# Altium schematic symbol library PRO_LA150C_RDIVER_V1.00.SCHLIB: 31 symbols
Pins are listed as number, name and electrical type; pins without a type are passive.

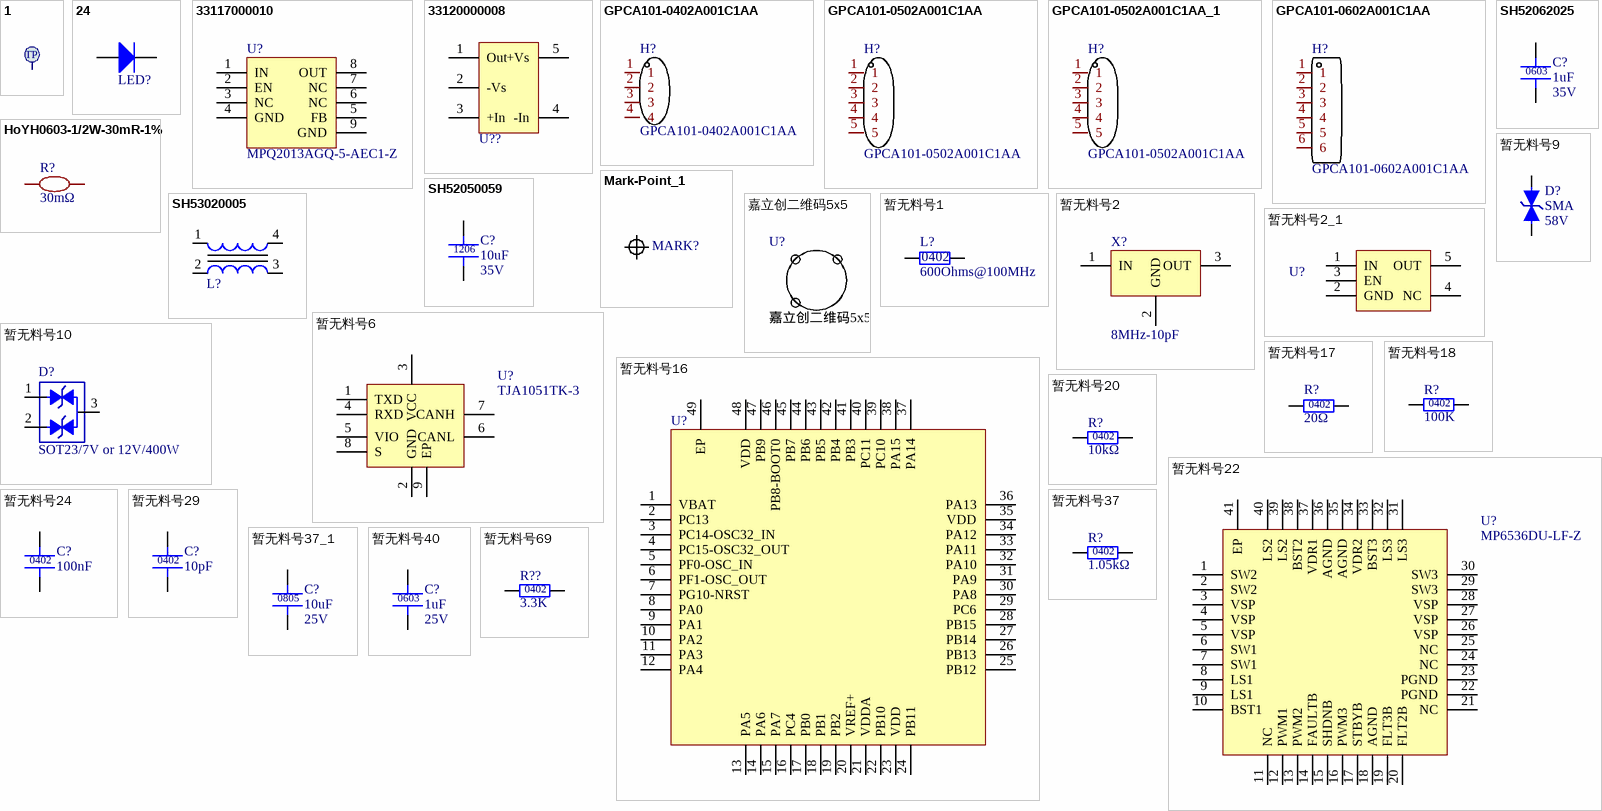
[diagram p0: symbols 1 to 暂无料号69]

## 1
designator TP?, comment TP0.8  (value not drawn)  (no BOM)
0.8mmTP测试点; PartNumber: 1; ①Lib Version: Shlib_V1.00; ①Lib Designer: 王涛; ①Lib Date: 2023.05.30; HelpURL: /
footprint TP0.8
pins: 0
text: TP

## 24
designator LED?, comment XL-1005UGC  (value not drawn)
LED; PartNumber: 24; ①Lib Version: Shlib_V1.00; ①Lib Designer: 叶建伟; Manufacture PN: XL-1005UGC; 供应商: XINGLIGHT; ①Lib Date: 2024.07.15; HelpURL: C:\事业二部电控开发部硬件技术部\Sanhua Library\Other\Datasheet\XL-1005UGC_规格书.pdf
footprint LED_0402_XL
pins: A, K

## 33117000010
designator U?, comment Manufacture PN: MPQ2013AGQ-5-AEC1-Z  (hidden comment: 5V/150mA/QFN-8)
LDO; PartNumber: 33117000010; ①器件等级: AEC-Q100; 有效期: 2 years; ①制造商: MPS; ②工作温度: -40~125℃; ②工作电压V: 2.5V ~ 40V; ①Lib Version: Shlib_V1.00; ①Lib Designer: 逯佩洁; ①Lib Date: 2023.08.25; HelpURL: C:\事业二部电控开发部硬件技术部\Sanhua Library\IC_POWER\DATASHEET\33117000010-MPQ2013AGQ-5-AEC1.pdf
footprint QFN8_MPS
pins: 1 IN, 2 EN, 3 NC, 4 GND, 5 FB, 6 NC, 7 NC, 8 OUT, 9 GND

## 33120000008
designator U??, comment 2.1V~6.0V/1 MHz/80μA/SOT23-5  (value not drawn)
运算放大器; PartNumber: 33120000008; Manufacture PN: TP6001-TR; ①器件等级: 非车规; 有效期: 2 years; ①制造商: 3PEAK; ②工作温度: -40 °C~125 °C; ②工作电流I: Imax=10mA; ①Lib Version: Shlib_V1.00; ①Lib Designer: 王涛; ②工作电压V: 2.1V~6.0V; ①Lib Date: 2023.02.21; HelpURL: C:\事业二部电控开发部硬件技术部\Sanhua Library\Amplifier\Datasheet\3Peak-TP6001.pdf
footprint SOT23-5_3PEAK
pins: 1 Out, 2 -Vs, 3 +In, 4 -In, 5 +Vs

## GPCA101-0402A001C1AA
designator H?
Manufacturer: GREENCONN(格康); Symbol: GPCA101-0502A001C1AA; Add into BOM: yes; Pin Structure: 1x5P; Pitch: 1mm; Current Rating (Max): 1A; Device: GPCA101-0502A001C1AA; Supplier: LCSC; Supplier Part: C5138889; Manufacturer Part: GPCA101-0402A001C1AA; LCSC Part Name: GPCA101-0502A001C1AA; Supplier Footprint: 插件,P=1mm; JLCPCB Part Class: Extended Part; Datasheet: https://atta.szlcsc.com/upload/public/pdf/source/20221101/815E8DB63101104F5702A6393B10E0FC.pdf; Convert to PCB: yes; Mounting Type: 直插; Number of Rows: 单排; Number of Pins: 5P; Operating Temperature Range: -40℃~+105℃; Name: GPCA101-0402A001C1AA
footprint 4pin
pins: 1, 2, 3, 4

## GPCA101-0502A001C1AA
designator H?
Manufacturer: GREENCONN(格康); Add into BOM: yes; Pin Structure: 1x5P; Pitch: 1mm; Current Rating (Max): 1A; Name: GPCA101-0502A001C1AA; Symbol: GPCA101-0502A001C1AA; Device: GPCA101-0502A001C1AA; Supplier: LCSC; Supplier Part: C5138889; Manufacturer Part: GPCA101-0502A001C1AA; LCSC Part Name: GPCA101-0502A001C1AA; Supplier Footprint: 插件,P=1mm; JLCPCB Part Class: Extended Part; Datasheet: https://atta.szlcsc.com/upload/public/pdf/source/20221101/815E8DB63101104F5702A6393B10E0FC.pdf; Convert to PCB: yes; Mounting Type: 直插; Number of Rows: 单排; Number of Pins: 5P; Operating Temperature Range: -40℃~+105℃
footprint 5pin
pins: 1, 2, 3, 4, 5

## GPCA101-0502A001C1AA_1
designator H?, comment GPCA101-0502A001C1AA
Manufacturer: GREENCONN(格康); Add into BOM: yes; Pin Structure: 1x5P; Pitch: 1mm; Current Rating (Max): 1A; Symbol: GPCA101-0502A001C1AA; Device: GPCA101-0502A001C1AA; Supplier: LCSC; Supplier Part: C5138889; Manufacturer Part: GPCA101-0502A001C1AA; LCSC Part Name: GPCA101-0502A001C1AA; Supplier Footprint: 插件,P=1mm; JLCPCB Part Class: Extended Part; Datasheet: https://atta.szlcsc.com/upload/public/pdf/source/20221101/815E8DB63101104F5702A6393B10E0FC.pdf; Convert to PCB: yes; Mounting Type: 直插; Number of Rows: 单排; Number of Pins: 5P; Operating Temperature Range: -40℃~+105℃; Name: GPCA101-0502A001C1AA
footprint 5pin
pins: 1, 2, 3, 4, 5

## GPCA101-0602A001C1AA
designator H?
Manufacturer: GREENCONN(格康); Symbol: GPCA101-0502A001C1AA; Add into BOM: yes; Pin Structure: 1x5P; Pitch: 1mm; Current Rating (Max): 1A; Device: GPCA101-0502A001C1AA; Supplier: LCSC; Supplier Part: C5138889; Manufacturer Part: GPCA101-0602A001C1AA; LCSC Part Name: GPCA101-0502A001C1AA; Supplier Footprint: 插件,P=1mm; JLCPCB Part Class: Extended Part; Datasheet: https://atta.szlcsc.com/upload/public/pdf/source/20221101/815E8DB63101104F5702A6393B10E0FC.pdf; Convert to PCB: yes; Mounting Type: 直插; Number of Rows: 单排; Number of Pins: 5P; Operating Temperature Range: -40℃~+105℃; Name: GPCA101-0602A001C1AA
footprint 6pin
pins: 1, 2, 3, 4, 5, 6

## HoYH0603-1/2W-30mR-1%
designator R?, comment 30mΩ
电阻类型:采样电阻;阻值:30mΩ;精度:±1%;功率:500mW;安装方式:贴片;; Manufacturer: Milliohm(毫欧); Symbol: HOYH0603-1/2W-30MR-1%; Add into BOM: yes; Tolerance: ±1%; Power(Watts): 500mW; Mounting Sytle: 贴片; Device: HoYH0603-1/2W-30mR-1%; LCSC Part Name: 30mΩ ±1% 500mW; Supplier Part: C2932781; Manufacturer Part: HoYH0603-1/2W-30mR-1%; Supplier Footprint: 0603; JLCPCB Part Class: 扩展库; Datasheet: https://atta.szlcsc.com/upload/public/pdf/source/20211116/A510C0D8A660B2C11D153FDB54B68FB7.pdf; Supplier: LCSC; Convert to PCB: yes; Type: 采样电阻; Value: 30mΩ
footprint R0603_AC_YAGEO (Chip Resistor, 2-Leads, Body 1.60x0.80mm, IPC Medium Density)
pins: 1, 2

## Mark-Point_1
designator MARK?  (value not drawn)
Add into BOM: no; Convert to PCB: yes; Symbol: Mark-Point; Device: Mark-Point_1
footprint Mark-Point-1mm
pins: 1

## SH52050059
designator C?, comment ②容值: 10uF  ②工作电压V: 35V  (hidden comment: 1206-10uF-35V-10%)
贴片电容; PartNumber: SH52050059; Manufacture PN: CGA5L1X7R1V106K160AE; ①器件等级: AEC-Q200; 有效期: 6 months; 存储条件: RH:20~70% +5~40℃; ①制造商: TDK; ②工作温度: -55℃~+125℃; ②容差: ±10%; ①Lib Version: Shlib_V1.00; ①Lib Designer: 王涛; ①Lib Date: 2022.09.27; HelpURL: C:\事业二部电控开发部硬件技术部\Sanhua Library\Capacitor\Datasheet\CGA系列-TDK.pdf
footprint C1206_CGA_TDK
pins: 1, 2
text: 1206

## SH52062025
designator C?, comment ②容值: 1uF  ②工作电压V: 35V  (hidden comment: 0603-1uF-35V-10%)
贴片电容; PartNumber: SH52062025; Manufacture PN: CGA3E1X7R1V105KT000N; ①器件等级: AEC-Q200; 有效期: 6 months; 存储条件: RH:20~70% +5~40℃; ①制造商: TDK; ②工作温度: -55℃~+125℃; ②容差: ±10%; ①Lib Version: Shlib_V1.00; ①Lib Designer: 王涛; ①Lib Date: 2022.09.27; HelpURL: C:\事业二部电控开发部硬件技术部\Sanhua Library\Capacitor\Datasheet\CGA系列-TDK.pdf
footprint C0603_CGA_TDK
pins: 1, 2
text: 0603

## SH53020005
designator L?, comment 4.5*3.2/50uH+50/1Ω/0.2A/-30%  (value not drawn)
贴片电感; PartNumber: SH53020005; Manufacture PN: ACT45B-510-2P-TL003; ①器件等级: AEC-Q200; ①制造商: TDK; ①Lib Version: Shlib_V1.00; ①Lib Designer: 逯佩洁; ①Lib Date: 2023.11.14; HelpURL: C:\事业二部电控开发部硬件技术部\Sanhua Library\Inductance\Datasheet\cmf_automotive_signal_act45b_en.pdf
footprint L4.5*3.2*2.8_TDK (DFN, 4-Leads, Body 3.20x4.50mm, Pitch 3.80mm, IPC Medium Density)
pins: 1, 2, 3, 4

## 嘉立创二维码5x5
designator U?, comment TOP层二维码5x5  (value not drawn)
Symbol: 嘉立创二维码5x5; Add into BOM: yes; Device: 嘉立创二维码5x5; Convert to PCB: yes
footprint JLC-QRCODE-5x5

## 暂无料号1
designator L?, comment value 600Ohms@100MHz  (hidden comment: 0402-600 Ohms@100MHz)
贴片磁珠; PartNumber: 暂无料号1; Manufacture PN: BLM15AG601SN1D; ①器件等级: AEC-Q200; 有效期: 6个月; ①制造商: MURATA; ①Lib Version: Shlib_V1.00; ①Lib Designer: 叶建伟; ①Lib Date: 2024.07.11; HelpURL: C:\事业二部电控开发部硬件技术部\Sanhua Library\Magnetic_Bead\Datasheet\BLM15AG601SN1D.pdf
footprint B0402_MURATA (Chip Inductor, 2-Leads, Body 1.00x0.50mm, IPC Medium Density)
pins: 1, 2
text: 0402

## 暂无料号2
designator X?, comment 8MHz-10pF
贴片晶振; PartNumber: 暂无料号2; Manufacture PN: CSTCE8M00G52-R0; ①制造商: MURATA; ②工作温度: -20~80°C; ②容值: 10pf; ①Lib Version: Shlib_V1.00; ①Lib Designer: 叶建伟; ①Lib Date: 2024.07.11; HelpURL: C:\事业二部电控开发部硬件技术部\Sanhua Library\Crystal_Oscillator\Datasheet\CSTCE8M00G52-R0.pdf
footprint Y_8M_MURATA
pins: 1 IN, 2 GND, 3 OUT

## 暂无料号2_1
designator U?, comment SOT-23-5/3.3V/300mA/1.4V-5.5V  (value not drawn)
LDO; PartNumber: 暂无料号2; Manufacture PN: TLV74333PDBVR; ①制造商: Texas Instruments; ②工作温度: -40℃~125℃; ②工作电流I: 300mA; ①Lib Version: Shlib_V1.00; ①Lib Designer: 叶建伟; ②工作电压V: 1.4V-5.5V; ①Lib Date: 2024.07.15; HelpURL: C:\事业二部电控开发部硬件技术部\Sanhua Library\IC_POWER\DATASHEET\TLV743P.pdf
footprint SOT-23-5_TI (SOT23, 5-Leads, Body 2.90x2.80mm, Pitch 0.95mm, IPC Medium Density)
pins: 1 IN, 2 GND, 3 EN, 4 NC, 5 OUT

## 暂无料号6
designator U?, comment Manufacture PN: TJA1051TK-3  (hidden comment: SO8/5.0V/70mA)
CAN收发器; PartNumber: 暂无料号6; ①制造商: NXP; ①Lib Version: Shlib_V1.00; ①Lib Designer: 逯佩洁; ①Lib Date: 2024.02.23; HelpURL: C:\事业二部电控开发部硬件技术部\Sanhua Library\IC_Bus\Datasheet\TJA1051TK-3,118.pdf
footprint U_HVSON8_NXP
pins: 1 TXD, 2 GND, 3 VCC, 4 RXD, 5 VIO, 6 CANL, 7 CANH, 8 S, 9 EP

## 暂无料号9
designator D?, comment 封装: SMA  ②工作电压V: 58V  (hidden comment: SMA/58V/400W)
贴片TVS管; PartNumber: 暂无料号9; Manufacture PN: P4SMAJ58CA_R1_00001; ①制造商: PANJIT; ②工作温度: -55~+150℃; ②功率P: 400W; ①Lib Version: Shlib_V1.00; ①Lib Designer: 叶建伟; ①Lib Date: 2024.07.24; HelpURL: C:\事业二部电控开发部硬件技术部\Sanhua Library\TVS_ESD\Datasheet\P4SMAJ_规格书.pdf
footprint SMA_PANJIT (Molded Diode, 2-Leads, Body 4.30x2.70mm, IPC Medium Density)
pins: 1 A, 2 K

## 暂无料号10
designator D?, comment SOT23/7V or 12V/400W
贴片TVS管; PartNumber: 暂无料号10; Manufacture PN: CDSOT23-SM712; ①制造商: TECH PUBLIC; ①Lib Version: Shlib_V1.00; ①Lib Designer: 叶建伟; ①Lib Date: 2024.07.24; HelpURL: C:\事业二部电控开发部硬件技术部\Sanhua Library\TVS_ESD\Datasheet\CDSOT23-SM712.pdf
footprint SOT23_TP (SOT23, 3-Leads, Body 2.92x2.37mm, Pitch 0.95mm, IPC Medium Density)
pins: 1, 2, 3

## 暂无料号16
designator U?  (value not drawn)
MCU; Manufacture PN: STM32G473CEU3; ①制造商: ST; ②工作温度: -40~125℃; ②工作电压V: 1.71~3.6V; ①Lib Version: Shlib_V1.00; ①Lib Designer: 叶建伟; PartNumber: 暂无料号16; ①Lib Date: 2024.07.23; HelpURL: C:\事业二部电控开发部硬件技术部\Sanhua Library\IC_MCU\Datasheet\STM32G473规格书.pdf
footprint UFQFPN48_ST (QFN, 48-Leads, Body 7.00x7.00mm, Pitch 0.50mm, Thermal Pad 5.60x5.60mm, IPC Medium Density)
pins: 1 VBAT, 2 PC13, 3 PC14-OSC32_IN, 4 PC15-OSC32_OUT, 5 PF0-OSC_IN, 6 PF1-OSC_OUT, 7 PG10-NRST, 8 PA0, 9 PA1, 10 PA2, 11 PA3, 12 PA4, 13 PA5, 14 PA6, 15 PA7, 16 PC4, 17 PB0, 18 PB1, 19 PB2, 20 VREF+, 21 VDDA, 22 PB10, 23 VDD, 24 PB11, 25 PB12, 26 PB13, 27 PB14, 28 PB15, 29 PC6, 30 PA8, 31 PA9, 32 PA10, 33 PA11, 34 PA12, 35 VDD, 36 PA13, 37 PA14, 38 PA15, 39 PC10, 40 PC11, 41 PB3, 42 PB4, 43 PB5, 44 PB6, 45 PB7, 46 PB8-BOOT0, 47 PB9, 48 VDD, 49 EP

## 暂无料号17
designator R?, comment ②阻值: 20Ω  (hidden comment: 0402-20R-1%)
贴片电阻; PartNumber: 暂无料号17; Manufacture PN: RC0402FR-0720RL; ①制造商: YAGEO; ①Lib Version: Shlib_V1.00; ①Lib Designer: 逯佩洁; ①Lib Date: 2024.02.02; HelpURL: C:\事业二部电控开发部硬件技术部\Sanhua Library\Resistor\Datasheet\RC_ResGroup_YAGEO
footprint R0402_RC_YAGEO (Chip Resistor, 2-Leads, Body 1.00x0.50mm, IPC Medium Density)
pins: 1, 2
text: 0402

## 暂无料号18
designator R?, comment ②阻值: 100K  (hidden comment: 0402-100K-1%)
贴片电阻; PartNumber: 暂无料号18; Manufacture PN: RC0402FR-07100KL; ①器件等级: 非汽车级; ①制造商: YAGEO; ②工作温度: -55℃~155℃; ②阻差: ±1%; ①Lib Version: Shlib_V1.00; ①Lib Designer: 逯佩洁; ①Lib Date: 2024.02.04; HelpURL: C:\事业二部电控开发部硬件技术部\Sanhua Library\Resistor\Datasheet\RC_ResGroup_YAGEO.pdf
footprint R0402_RC_YAGEO
pins: 1, 2
text: 0402

## 暂无料号20
designator R?, comment ②阻值: 10kΩ  (hidden comment: 0402-10KR-1%)
贴片电阻; PartNumber: 暂无料号20; Manufacture PN: RC0402FR-0710KL; ①制造商: YAGEO; ①Lib Version: Shlib_V1.00; ①Lib Designer: 逯佩洁; ①Lib Date: 2024.03.04; HelpURL: C:\事业二部电控开发部硬件技术部\Sanhua Library\Resistor\Datasheet\
footprint R0402_RC_YAGEO (Chip Resistor, 2-Leads, Body 1.00x0.50mm, IPC Medium Density)
pins: 1, 2
text: 0402

## 暂无料号22
designator U?, comment Manufacture PN: MP6536DU-LF-Z  (hidden comment: QFN40/5~26V/5.5A)
电机驱动芯片; PartNumber: 暂无料号22; ①制造商: MPS; ②工作温度: -40~125℃; ②工作电压V: 5~26V; ②工作电流I: 5.5A; ①Lib Version: Shlib_V1.00; ①Lib Designer: 叶建伟; ①Lib Date: 2024.11.11; HelpURL: C:\事业二部电控开发部硬件技术部\Sanhua Library\IC_Driver\Datasheet\MP6536.pdf
footprint QFN40_5*5_MPS
pins: 1 SW2, 2 SW2, 3 VSP, 4 VSP, 5 VSP, 6 SW1, 7 SW1, 8 LS1, 9 LS1, 10 BST1, 11 NC, 12 PWM1, 13 PWM2, 14 FAULTB, 15 SHDNB, 16 PWM3, 17 STBYB, 18 AGND, 19 FLT3B, 20 FLT2B, 21 NC, 22 PGND, 23 PGND, 24 NC, 25 NC, 26 VSP, 27 VSP, 28 VSP, 29 SW3, 30 SW3, 31 LS3, 32 LS3, 33 BST3, 34 VDR2, 35 AGND, 36 AGND, 37 VDR1, 38 BST2, 39 LS2, 40 LS2, 41 EP

## 暂无料号24
designator C?, comment ②容值: 100nF  (hidden comment: C0402-100nF)
贴片电容; PartNumber: 暂无料号24; Manufacture PN: GRM155R71H104KE14D; ①器件等级: AEC-Q200; ①制造商: MURATA; ①Lib Version: Shlib_V1.00; ①Lib Designer: 逯佩洁; ①Lib Date: 2024.04.15; HelpURL: C:\事业二部电控开发部硬件技术部\Sanhua Library\Capacitor\Datasheet\GRM系列电容-muRata
footprint C0402_GRM_MURATA (Chip Capacitor, 2-Leads, Body 1.00x0.50mm, IPC Medium Density)
pins: 1, 2
text: 0402

## 暂无料号29
designator C?, comment ②容值: 10pF  (hidden comment: C0402-10pF-50V-5%)
贴片电容; PartNumber: 暂无料号29; Manufacture PN: CC0402JRNPO9BN100; ①器件等级: AEC-Q200; ①制造商: YAGEO; ①Lib Version: Shlib_V1.00; ①Lib Designer: 逯佩洁; ①Lib Date: 2024.04.15; HelpURL: C:\事业二部电控开发部硬件技术部\Sanhua Library\Capacitor\Datasheet\CC系列NPO电容(0-50V)-YAGEO
footprint C0402_CC_YAGEO (Chip Capacitor, 2-Leads, Body 1.00x0.50mm, IPC Medium Density)
pins: 1, 2
text: 0402

## 暂无料号37
designator R?, comment ②阻值: 1.05kΩ  (hidden comment: 0402-1.05KΩ-1%)
贴片电阻; PartNumber: 暂无料号37; Manufacture PN: RC0402FR-071K05L; ①制造商: YAGEO; ②阻差: ±1%; ①Lib Version: Shlib_V1.00; ①Lib Designer: 叶建伟; ①Lib Date: 2024.07.24; HelpURL: C:\事业二部电控开发部硬件技术部\Sanhua Library\Resistor\Datasheet\RC_ResGroup_YAGEO.pdf
footprint R0402_RC_YAGEO (Chip Resistor, 2-Leads, Body 1.00x0.50mm, IPC Medium Density)
pins: 1, 2
text: 0402

## 暂无料号37_1
designator C?, comment ②容值: 10uF  ②工作电压V: 25V  (hidden comment: C0805-10uF-25V-10%)
贴片电容; PartNumber: 暂无料号37; Manufacture PN: CC0805KKX5R8BB106; ①器件等级: AEC-Q200; ①制造商: YAGEO; ②容差: ±10%; ①Lib Version: Shlib_V1.00; ①Lib Designer: 叶建伟; ①Lib Date: 2024.07.15; HelpURL: C:\事业二部电控开发部硬件技术部\Sanhua Library\Capacitor\Datasheet\CC系列X5R电容(0-50V)-YAGEO.pdf
footprint C0805_CC_YAGEO (Chip Capacitor, 2-Leads, Body 2.00x1.25mm, IPC Medium Density)
pins: 1, 2
text: 0805

## 暂无料号40
designator C?, comment ②容值: 1uF  ②工作电压V: 25V  (hidden comment: 0603-1uF-25V-10%)
贴片电容; PartNumber: 暂无料号40; Manufacture PN: CL10B105KA8NNNC; 有效期: 1 year; ①制造商: SAMSUNG; ②工作温度: -55℃~+125℃; ②容差: ±10%; ①Lib Version: Shlib_V1.00; ①Lib Designer: 叶建伟; ①Lib Date: 2024.07.25; HelpURL: C:\事业二部电控开发部硬件技术部\Sanhua Library\Capacitor\Datasheet\CL10B105KA8NNNC_规格书
footprint C0603_CL_SAMSUNG
pins: 1, 2
text: 0603

## 暂无料号69
designator R??, comment ②阻值: 3.3K  (hidden comment: 0402-3.3K-1%)
贴片电阻; PartNumber: 暂无料号69; Manufacture PN: RC0402FR-073K3L; ①器件等级: 非汽车级; ①制造商: YAGEO; ②工作温度: -55℃～155℃; ②阻差: ±1%; ①Lib Version: Shlib_V1.00; ①Lib Designer: 陆波; ①Lib Date: 2026.02.17; HelpURL: C:\事业二部电控开发部硬件技术部\Sanhua Library\Resistor\Datasheet\RC_ResGroup_YAGEO.pdf
footprint R0402_RC_YAGEO
pins: 1, 2
text: 0402